# Altium integrated library Oscillator.IntLib: 35 symbols
Pins are listed as number, name and electrical type; pins without a type are passive.

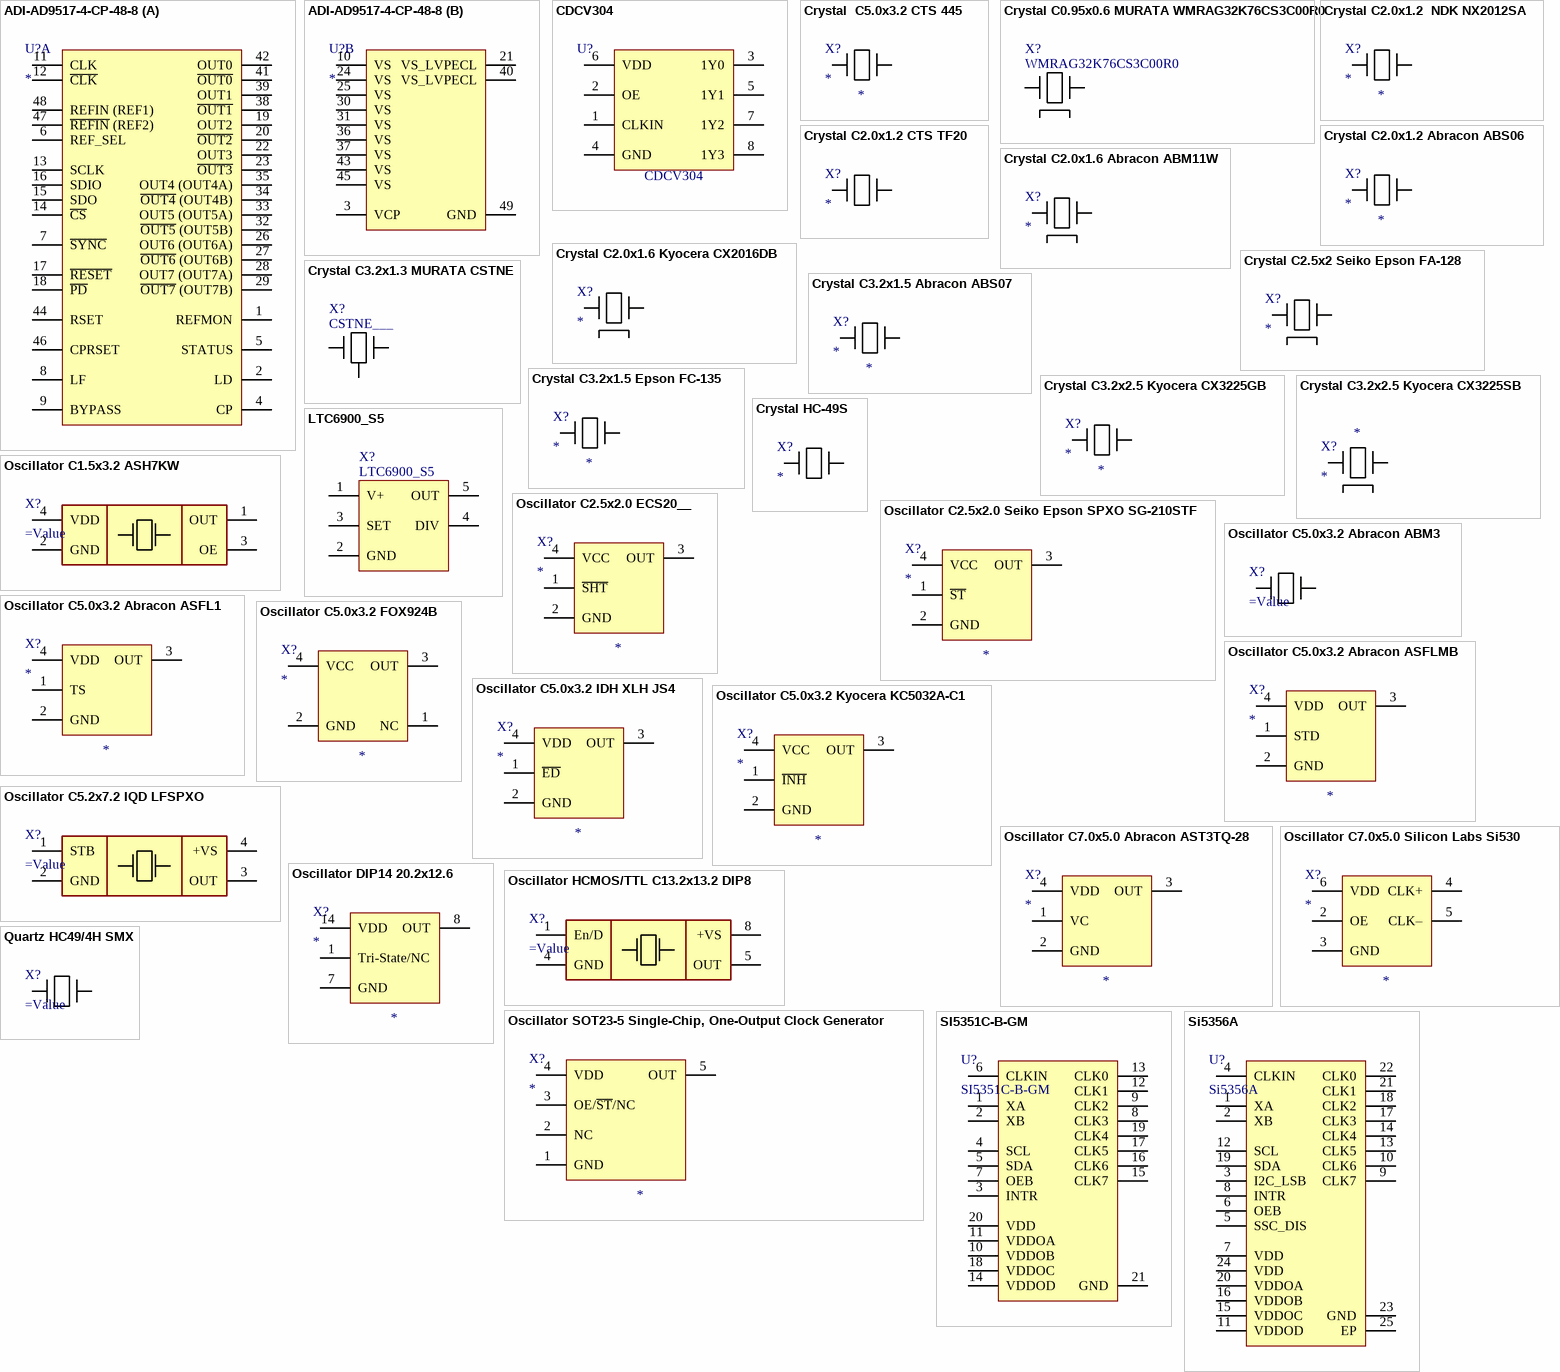
[diagram p0: symbols ADI-AD9517-4-CP-48-8 to Si5356A]

## ADI-AD9517-4-CP-48-8
designator U?
Value: *
footprint QFN48 P0.5 T5.5X5.4 C7.0X7.0 H1.0 (QFN, 48-Leads, Body 7x7mm, Pitch 0.5mm, Thermal Pad 5.5x5.5mm, IPC High Density)
part A pins: 1 REFMON "Reference Monitor (Output). This pin has multiple selectable outputs; see Table 54, Register 0x01B.", 2 LD "Lock Detect (Output). This pin has multiple selectable outputs; see Table 54, Register 0x01A.", 4 CP "Charge Pump (Output). Connects to external loop filter.", 5 STATUS "Status (Output). This pin has multiple selectable outputs; see Table 54, Register 0x017.", 6 REF_SEL "Reference Select. Selects REF1 (low) or REF2 (high). This pin has an internal 30 K ohm pull-down resistor.", 7 ~{SYNC} "Manual Synchronizations and Manual Holdover. This pin initiates a manual synchronization and is also used for manual holdover. Active low. This pin has an internal 30 K ohm pull-up resistor.", 8 LF "Loop Filter (Input). Connects to VCO control voltage node internally. This pin has 31 pF of internal capacitance to ground, which may influence the loop filter design for large loop bandwidths.", 9 BYPASS "This pin is for bypassing the LDO to ground with a capacitor.", 11 CLK "Along with C\L\K\, this is the self-biased differential input for the clock distribution section. This pin can be left floating if internal VCO is used.", 12 ~{CLK} "Along with CLK, this is the self-biased differential input for the clock distribution section. This pin can be left floating if internal VCO is used.", 13 SCLK "Serial Control Port Data Clock Signal.", 14 ~{CS} "Serial Control Port Chip Select; Active Low. This pin has an internal 30 K ohm pull-up resistor.", 15 SDO "Serial Control Port. Unidirectional serial data output.", 16 SDIO "Serial Control Port. Bidirectional serial data input/output and unidirectional serial data input.", 17 ~{RESET} "Chip Reset, Active Low. This pin has an internal 30 K ohm pull-up resistor.", 18 ~{PD} "Chip Power Down, Active Low. This pin has an internal 30 K ohm pull-up resistor.", 19 OUT2 "LVPECL Output; One Side of a Differential LVPECL Output.", 20 ~{OUT2} "LVPECL Output; One Side of a Differential LVPECL Output.", 22 OUT3 "LVPECL Output; One Side of a Differential LVPECL Output.", 23 ~{OUT3} "3.3 V Power Pins.", 26 OUT6 (OUT6A) "LVDS/CMOS Output; One Side of a Differential LVDS Output or a Single-Ended CMOS Output.", 27 ~{OUT6} (OUT6B) "LVDS/CMOS Output; One Side of a Differential LVDS Output or a Single-Ended CMOS Output.", 28 OUT7 (OUT7A) "LVDS/CMOS Output; One Side of a Differential LVDS Output or a Single-Ended CMOS Output.", 29 ~{OUT7} (OUT7B) "LVDS/CMOS Output; One Side of a Differential LVDS Output or a Single-Ended CMOS Output.", 32 ~{OUT5} (OUT5B) "LVDS/CMOS Output; One Side of a Differential LVDS Output or a Single-Ended CMOS Output.", 33 OUT5 (OUT5A) "LVDS/CMOS Output; One Side of a Differential LVDS Output or a Single-Ended CMOS Output.", 34 ~{OUT4} (OUT4B) "LVDS/CMOS Output; One Side of a Differential LVDS Output or a Single-Ended CMOS Output.", 35 OUT4 (OUT4A) "LVDS/CMOS Output; One Side of a Differential LVDS Output or a Single-Ended CMOS Output.", 38 ~{OUT1} "LVPECL Output; One Side of a Differential LVPECL Output.", 39 OUT1 "LVPECL Output; One Side of a Differential LVPECL Output.", 41 ~{OUT0} "LVPECL Output; One Side of a Differential LVPECL Output.", 42 OUT0 "LVPECL Output; One Side of a Differential LVPECL Output.", 44 RSET "Resistor connected here sets internal bias currents. Nominal value = 4.12 K ohm.", 46 CPRSET "Resistor connected here sets CP current range. Nominal value = 5.1 K ohm.", 47 ~{REFIN} (REF2) "Along with REFIN, this is the self-biased differential input for the PLL reference. Alternatively, this pin is a single-ended input for REF2.", 48 REFIN (REF1) "Along with R\E\F\I\N\, this is the self-biased differential input for the PLL reference. Alternatively, this pin is a single-ended input for REF1."
part B pins: 3 VCP "Power Supply for Charge Pump (CP); VS =< VCP =< 5.0 V. This pin is usually 3.3 V for most applications; but if a 5 V external VCXO is used, this pin should be 5 V.", 10 VS "3.3 V Power Pins.", 21 VS_LVPECL "Extended Voltage 2.5 V to 3.3 V LVPECL Power Pins.", 24 VS "3.3 V Power Pins.", 25 VS "3.3 V Power Pins.", 30 VS "3.3 V Power Pins.", 31 VS "3.3 V Power Pins.", 36 VS "3.3 V Power Pins.", 37 VS "3.3 V Power Pins.", 40 VS_LVPECL "Extended Voltage 2.5 V to 3.3 V LVPECL Power Pins.", 43 VS "3.3 V Power Pins.", 45 VS "3.3 V Power Pins.", 49 GND "Ground. The external paddle on the bottom of the package must be connected to ground for proper operation."

## CDCV304
designator U?  value CDCV304
200-MHz GENERAL-PURPOSE CLOCK BUFFER
footprint TSSOP8 P0.65 C4.4x3.0 H1.2 (TSSOP, 8-Leads, Body 4.4x3.0mm, Pitch 0.65mm, IPC Medium Density)
pins: 1 CLKIN "Input pin for external crystal.", 2 OE "Input pin for external crystal.", 3 1Y0 "Interrupt pin. Open drain active low output, requires a pull-up resistor greater than 1 k ohm.", 4 GND "I2C bus serial clock input. Pull-up to VDD core with 1 k ohm.", 5 1Y1 "I2C bus serial data input. Pull-up to VDD core with 1 k ohm.", 6 VDD "PLL clock input.", 7 1Y2 "Output driver enable. Low = enabled, High = disabled.", 8 1Y3 "Output driver enable. Low = enabled, High = disabled."

## Crystal  C5.0x3.2 CTS 445
designator X?
Crystal  C5.0x3.2 CTS 445; Value: *
footprint CRYSTAL C5.0x3.2 CTS 445
pins: 1, 2

## Crystal C0.95x0.6 MURATA WMRAG32K76CS3C00R0
designator X?, comment WMRAG32K76CS3C00R0
Crystal C0.95x0.6 MURATA WMRAG32K76CS3C00R0; Value: WMRAG32K76CS3C00R0
footprint Crystal C0.95x0.6 MURATA WMRAG32K76CS3C00R0
pins: 1, 2, 3, 4

## Crystal C2.0x1.2  NDK NX2012SA
designator X?
Crystal C2.0x1.2 NDK NX2012SA; Value: *
footprint Crystal C2.0x1.2 NDK NX2012SA
pins: 1, 2

## Crystal C2.0x1.2 Abracon ABS06
designator X?
Crystal C2.0x1.2 Abracon ABS06; Value: *
footprint Crystal C2.0x1.2 Abracon ABS06 (Footprint not found)
pins: 1, 2

## Crystal C2.0x1.2 CTS TF20
designator X?
Crystal C2.0x1.2 CTS TF20; Value: *
footprint Crystal C2.0x1.2 CTS TF20
pins: 1, 2

## Crystal C2.0x1.6 Abracon ABM11W
designator X?
Crystal C2.0x1.6 Abracon ABM11W; Value: *
footprint Crystal C2.0x1.6 Abracon ABM11W (Crystal C2.0x1.6 Abracon ABM11W, Height 0.5mm)
pins: 1, 2, 3, 4

## Crystal C2.0x1.6 Kyocera CX2016DB
designator X?
Crystal C2.0x1.6 Kyocera CX2016DB; Value: *
footprint Crystal C2.0x1.6 Kyocera CX2016DB (Crystal C2.0x1.6 Kyocera CX2016DB, Height 0.4mm)
pins: 1, 2, 3, 4

## Crystal C2.5x2 Seiko Epson FA-128
designator X?
Crystal C2.5x2 Seiko Epson FA-128; Value: *
footprint Crystal C2.5x2 Seiko Epson FA-128 (Crystal Seiko Epson FA-128, Case 2.0x1.6, Height 0.5)
pins: 1, 2, 3, 4

## Crystal C3.2x1.3 MURATA CSTNE
designator X?, comment CSTNE___
Ceramic Resonators CERALOCK; Value: CSTNE___
footprint Crystal C3.2x1.3Murata CSTNE (Crystal Murat CSTNE, Case 3.2x1.3, Height 0.7)
pins: 1, 2, 3

## Crystal C3.2x1.5 Abracon ABS07
designator X?
Crystal C3.2x1.5 Abracon ABS07; Value: *
footprint Crystal C3.2x1.5 Abracon ABS07
footprint Crystal C3.2x1.5 Abracon ABS07 High Density
pins: 1, 2

## Crystal C3.2x1.5 Epson FC-135
designator X?
Crystal C3.2x1.5 Epson FC-135; Value: *
footprint Crystal C3.2x1.5 Seiko Epson FC-135 (Crystal C3.2x1.5 Epson FC-135)
pins: 1, 2

## Crystal C3.2x2.5 Kyocera CX3225GB
designator X?
Crystal C3.2x2.5 Kyocera CX3225GB; Value: *
footprint CRYSTAL C3.2x2.5 Kyocera CX3225GB
pins: 1, 3

## Crystal C3.2x2.5 Kyocera CX3225SB
designator X?
Crystal C3.2x2.5 Kyocera CX3225SB; Value: *
footprint CRYSTAL C3.2x2.5 Kyocera CX3225SB
pins: 1, 2, 3, 4

## Crystal HC-49S
designator X?
Crystal HC-49S; Value: *
footprint Crystal HC-49S (Crystal HC-49S, Case 12.0x4.8 Height 4.0)
pins: 1, 2

## LTC6900_S5
designator X?
Low Power, 1kHz to 20MHz Resistor Set; Value: LTC6900_S5
footprint SOT23-5 P0.95 C1.6x3.0 H1.3 (SOT23, 5-Leads, Body 1.6x3.0mm, Pitch 0.95mm, IPC Medium Density)
pins: 1 V+, 2 GND, 3 SET, 4 DIV, 5 OUT

## Oscillator C1.5x3.2 ASH7KW
designator X?
Oscillator C1.5x3.2 ASH7KW
footprint Crystal C1.5x3.2 H1.0 ASH7KW
pins: 1 OUT, 2 GND, 3 OE, 4 VDD

## Oscillator C2.5x2.0 ECS20__
designator X?
Oscillator C2.5x2.0 ECS20__; Value: *
footprint Oscillator C2.5x2.0 ECS20__ (Oscillator ECS20__, Case 2.5x2, Height 0.9)
pins: 1 ~{SHT}, 2 GND, 3 OUT, 4 VCC

## Oscillator C2.5x2.0 Seiko Epson SPXO SG-210STF
designator X?
Oscillator C2.5x2 Seiko Epson SPXO SG-210STF; Value: *
footprint Oscillator C2.5x2 Seiko Epson SPXO SG-210STF (Oscillator Seiko Epson SPXO SG-210STF, Case 2.5x2, Height 0.9)
pins: 1 ~{ST}, 2 GND, 3 OUT, 4 VCC

## Oscillator C5.0x3.2 Abracon ABM3
designator X?
Oscillator C5.0x3.2 Abracon ABM3
footprint Oscillator C5.0x3.2 Abracon ABM3 (Footprint not found)
pins: 1, 2

## Oscillator C5.0x3.2 Abracon ASFL1
designator X?
Oscillator C5.0x3.2 Abracon ASFL1; Value: *
footprint Oscillator C5.0x3.2 Abracon ASFL1 (Oscillator Abracon ASFL1F, Case 5x3.2, Height 1.3)
pins: 1 TS, 2 GND, 3 OUT, 4 VDD

## Oscillator C5.0x3.2 Abracon ASFLMB
designator X?
Oscillator C5.0x3.2 Abracon ASFLMB; Value: *
footprint Oscillator C5.0x3.2 Abracon ASFLMB (Oscillator Abracon ASFLMB, Case 5x3.2, Height 0.85)
pins: 1 STD, 2 GND, 3 OUT, 4 VDD

## Oscillator C5.0x3.2 FOX924B
designator X?
Oscillator C5.0x3.2 FOX924B; Value: *
footprint Oscillator C5.0x3.2 FOX924B (Oscillator FOX924B Series , Case 5x3.2, Height 1.5)
pins: 1 NC, 2 GND, 3 OUT, 4 VCC

## Oscillator C5.0x3.2 IDH XLH JS4
designator X?
Oscillator C5.0x3.2 IDH XLH JS4; Value: *
footprint Oscillator C5.0x3.2 IDT JS4 (Oscillator IDT JS, Case 5.0x3.2 Height 1.2mm)
pins: 1 ~{ED}, 2 GND, 3 OUT, 4 VDD

## Oscillator C5.0x3.2 Kyocera KC5032A-C1
designator X?
Oscillator C5.0x3.2 Kyocera KC5032A-C1; Value: *
footprint Oscillator C5.0x3.2 Kyocera KC5032A-C1 (Oscillator Kyocera KC5032A-C1 Series , Case 5x3.2, Height 1.0)
pins: 1 ~{INH}, 2 GND, 3 OUT, 4 VCC

## Oscillator C5.2x7.2 IQD LFSPXO
designator X?
Oscillator C5.2x7.2 IQD LFSPXO
footprint Oscillator C5.2x7.2 IQD LFSPXO
pins: 1 STB, 2 GND, 3 OUT, 4 +VS

## Oscillator C7.0x5.0 Abracon AST3TQ-28
designator X?
Oscillator C7.0x5.0 Abracon AST3TQ-28; Value: *
footprint Oscillator C7.0x5.0 Abracon AST3TQ-28
pins: 1 VC, 2 GND, 3 OUT, 4 VDD

## Oscillator C7.0x5.0 Silicon Labs Si530
designator X?
Oscillator C7.0x5.0 Silicon Labs Si530; Value: *
footprint Oscillator C7.0x5.0 Silicon Labs Si530 (Oscillator Silicon Labs Si530, Case 7.0x5.0, Height 1.80)
pins: 2 OE, 3 GND, 4 CLK+, 5 CLK–, 6 VDD

## Oscillator DIP14 20.2x12.6
designator X?
Oscillator DIP14; Value: *
footprint Oscillator DIP14 C20.2x12.6 H5.9
pins: 1 Tri-State/NC, 7 GND, 8 OUT, 14 VDD

## Oscillator HCMOS/TTL C13.2x13.2 DIP8
designator X?
Oscillator HCMOS/TTL C13.2x13.2 DIP8
footprint HCMOS/TTL 4 Pin C13.2x13.2 H5.8
pins: 1 En/D, 4 GND, 5 OUT, 8 +VS

## Oscillator SOT23-5 Single-Chip, One-Output Clock Generator
designator X?
Single-Chip, One-Output Clock Generator; Value: *
footprint SOT23-5 P0.95 C1.6x3.0 H1.3 (SOT23, 5-Leads, Body 1.6x3.0mm, Pitch 0.95mm, IPC Medium Density)
pins: 1 GND, 2 NC, 3 OE/~{ST}/NC, 4 VDD, 5 OUT

## Quartz HC49/4H SMX
designator X?
Quartz HC49/4H SMX
footprint Quartz HC49/4H SMX
pins: 1, 2

## SI5351C-B-GM
designator U?
I2C-PROGRAMMABLE ANY-FREQUENCY CMOS CLOCK  GENERATOR + VCXO; Value: SI5351C-B-GM
footprint QFN20 P0.5 T2.7X2.7 C4.0X4.0 H0.9 (QFN, 20-Leads, Body 4x4mm, Pitch 0.5mm, Thermal Pad 2.7x2.7mm, IPC Medium Density)
pins: 1 XA "Input pin for external crystal.", 2 XB "Input pin for external crystal.", 3 INTR "Interrupt pin. Open drain active low output, requires a pull-up resistor greater than 1 k ohm.", 4 SCL "I2C bus serial clock input. Pull-up to VDD core with 1 k ohm.", 5 SDA "I2C bus serial data input. Pull-up to VDD core with 1 k ohm.", 6 CLKIN "PLL clock input.", 7 OEB "Output driver enable. Low = enabled, High = disabled.", 8 CLK3 "Output clock 3.", 9 CLK2 "Output clock 2.", 10 VDDOB "Output voltage supply pin for CLK2 and CLK3. See 6.2", 11 VDDOA "Output voltage supply pin for CLK0 and CLK1. See 6.2", 12 CLK1 "Output clock 1.", 13 CLK0 "Output clock 0.", 14 VDDOD "Output voltage supply pin for CLK6 and CLK7. See 6.2", 15 CLK7 "Output clock 7.", 16 CLK6 "Output clock 6.", 17 CLK5 "Output clock 5.", 18 VDDOC "Output voltage supply pin for CLK4 and CLK5. See 6.2", 19 CLK4 "Output clock 4.", 20 VDD "Core voltage supply pin", 21 GND "Ground."

## Si5356A
designator U?
I2C PROGRAMMABLE, ANY-FREQUENCY 1–200 MHZ,  QUAD FREQUENCY 8-OUTPUT CLOCK GENERATOR; Value: Si5356A
footprint QFN24 P0.5 T2.45X2.45 H1.0 (QFN, 24-Leads, Body 4x4mm, Pitch 0.5mm, Thermal Pad 2.45x2.45mm, TI Recommended)
pins: 1 XA "External Crystal.", 2 XB "External Crystal.", 3 I2C_LSB "I2C LSB Address Bit (3.3 V Tolerant).", 4 CLKIN "Single-Ended Input Clock.", 5 SSC_DIS "Spread Spectrum Disable.", 6 OEB "Output Enable (Active Low).", 7 VDD "Core Supply Voltage.", 8 INTR "Interrupt.", 9 CLK7 "Output Clock 7.", 10 CLK6 "Output Clock 6.", 11 VDDOD "Clock Output Bank D Supply Voltage.", 12 SCL "I2C Serial Clock Input (3.3 V Tolerant).", 13 CLK5 "Output Clock 5.", 14 CLK4 "Output Clock 4.", 15 VDDOC "Clock Output Bank C Supply Voltage.", 16 VDDOB "Clock Output Bank B Supply Voltage.", 17 CLK3 "Output Clock 3.", 18 CLK2 "Output Clock 2.", 19 SDA "I2C Serial Data (3.3 V Tolerant).", 20 VDDOA "Clock Output Bank A Supply Voltage.", 21 CLK1 "Output Clock 1.", 22 CLK0 "Output Clock 0.", 23 GND "Ground.", 24 VDD "Core Supply Voltage.", 25 EP "Ground Pad."